# EAGLE library part VARITRONIX_COG-C144MVGI-08 (library Pygmy)
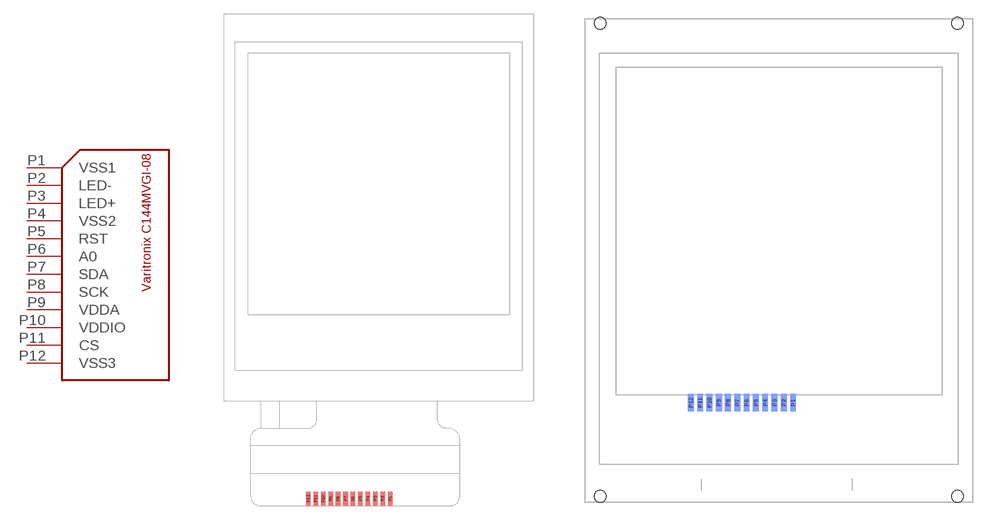
[diagram p41: symbol with the pads of VARITRONIX_COG-C144MVGI-08; footprints VARITRONIX_COG-C144MVGI-08, VARITRONIX_COG-C144MVGI-08_FOLDED]

Designator prefix -

## VARITRONIX_COG-C144MVGI-08  [VARITRONIX_COG-C144MVGI-08]
P1  VSS1
P2  LED-
P3  LED+
P4  VSS2
P5  RST
P6  A0
P7  SDA
P8  SCK
P9  VDDA
P10  VDDIO
P11  CS
P12  VSS3

## VARITRONIX_COG-C144MVGI-08FOLDED  [VARITRONIX_COG-C144MVGI-08_FOLDED]
Pads as for VARITRONIX_COG-C144MVGI-08

## Footprint VARITRONIX_COG-C144MVGI-08 (pad centres in mm)
smd 0.5 x 1.5: P1 17.9,-10.55; P2 17.1,-10.55; P3 16.3,-10.55; P4 15.5,-10.55; P5 14.7,-10.55; P6 13.9,-10.55; P7 13.1,-10.55; P8 12.3,-10.55; P9 11.5,-10.55; P10 10.7,-10.55; P11 9.9,-10.55; P12 9.1,-10.55

## Footprint VARITRONIX_COG-C144MVGI-08_FOLDED (pad centres in mm)
smd 0.5 x 1.5 bottom: P1 17.9,8.55; P2 17.1,8.55; P3 16.3,8.55; P4 15.5,8.55; P5 14.7,8.55; P6 13.9,8.55; P7 13.1,8.55; P8 12.3,8.55; P9 11.5,8.55; P10 10.7,8.55; P11 9.9,8.55; P12 9.1,8.55
hole 1 at 1.3,0.5
hole 1 at 32.05,41.24
hole 1 at 1.3,41.24
hole 1 at 32.05,0.5